# EAGLE library part DF12B(*)-80DP-0.5V (library hirose-df12)
0.5mm Pitch SMT Board to Board Connector Source: http://www.hirose.co.jp/catalogj_hp/jd_DF12_20131205.pdf http://www.hirose.co.jp/cataloge_hp/en_DF12_20130411.pdf
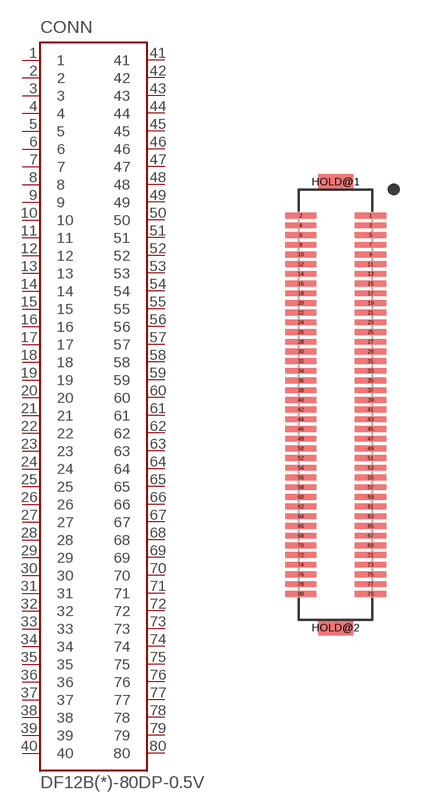
[diagram p21: symbol with the pads of DF12B(*)-80DP-0.5V; footprint DF12B(*)-80DP-0.5V]

Designator prefix CONN

## DF12B(3.0)-80DP-0.5V  [DF12B(*)-80DP-0.5V]
1  1
2  2
3  3
4  4
5  5
6  6
7  7
8  8
9  9
10  10
11  11
12  12
13  13
14  14
15  15
16  16
17  17
18  18
19  19
20  20
21  21
22  22
23  23
24  24
25  25
26  26
27  27
28  28
29  29
30  30
31  31
32  32
33  33
34  34
35  35
36  36
37  37
38  38
39  39
40  40
41  41
42  42
43  43
44  44
45  45
46  46
47  47
48  48
49  49
50  50
51  51
52  52
53  53
54  54
55  55
56  56
57  57
58  58
59  59
60  60
61  61
62  62
63  63
64  64
65  65
66  66
67  67
68  68
69  69
70  70
71  71
72  72
73  73
74  74
75  75
76  76
77  77
78  78
79  79
80  80

## Footprint DF12B(*)-80DP-0.5V (pad centres in mm)
smd 1.6 x 0.3: 1 1.8,9.75; 2 -1.8,9.75; 3 1.8,9.25; 4 -1.8,9.25; 5 1.8,8.75; 6 -1.8,8.75; 7 1.8,8.25; 8 -1.8,8.25; 9 1.8,7.75; 10 -1.8,7.75; 11 1.8,7.25; 12 -1.8,7.25; 13 1.8,6.75; 14 -1.8,6.75; 15 1.8,6.25; 16 -1.8,6.25; 17 1.8,5.75; 18 -1.8,5.75; 19 1.8,5.25; 20 -1.8,5.25; 21 1.8,4.75; 22 -1.8,4.75; 23 1.8,4.25; 24 -1.8,4.25; 25 1.8,3.75; 26 -1.8,3.75; 27 1.8,3.25; 28 -1.8,3.25; 29 1.8,2.75; 30 -1.8,2.75; 31 1.8,2.25; 32 -1.8,2.25; 33 1.8,1.75; 34 -1.8,1.75; 35 1.8,1.25; 36 -1.8,1.25; 37 1.8,0.75; 38 -1.8,0.75; 39 1.8,0.25; 40 -1.8,0.25; 41 1.8,-0.25; 42 -1.8,-0.25; 43 1.8,-0.75; 44 -1.8,-0.75; 45 1.8,-1.25; 46 -1.8,-1.25; 47 1.8,-1.75; 48 -1.8,-1.75; 49 1.8,-2.25; 50 -1.8,-2.25; 51 1.8,-2.75; 52 -1.8,-2.75; 53 1.8,-3.25; 54 -1.8,-3.25; 55 1.8,-3.75; 56 -1.8,-3.75; 57 1.8,-4.25; 58 -1.8,-4.25; 59 1.8,-4.75; 60 -1.8,-4.75; 61 1.8,-5.25; 62 -1.8,-5.25; 63 1.8,-5.75; 64 -1.8,-5.75; 65 1.8,-6.25; 66 -1.8,-6.25; 67 1.8,-6.75; 68 -1.8,-6.75; 69 1.8,-7.25; 70 -1.8,-7.25; 71 1.8,-7.75; 72 -1.8,-7.75; 73 1.8,-8.25; 74 -1.8,-8.25; 75 1.8,-8.75; 76 -1.8,-8.75; 77 1.8,-9.25; 78 -1.8,-9.25; 79 1.8,-9.75; 80 -1.8,-9.75
smd 1.8 x 0.8: HOLD@1 0,11.5; HOLD@2 0,-11.5